# Altium footprint library PcbLib1.PcbLib: 11 footprints
Each footprint in its own frame and in the unit in brackets; x right, y up, seen from the top. Pads: shape width x height; smd on the part's side, far side on the other; paste and mask are expansions set on the pad; w line width, h text height; cw(c..) or ccw(c..) is an arc to the next point about the centre after c.
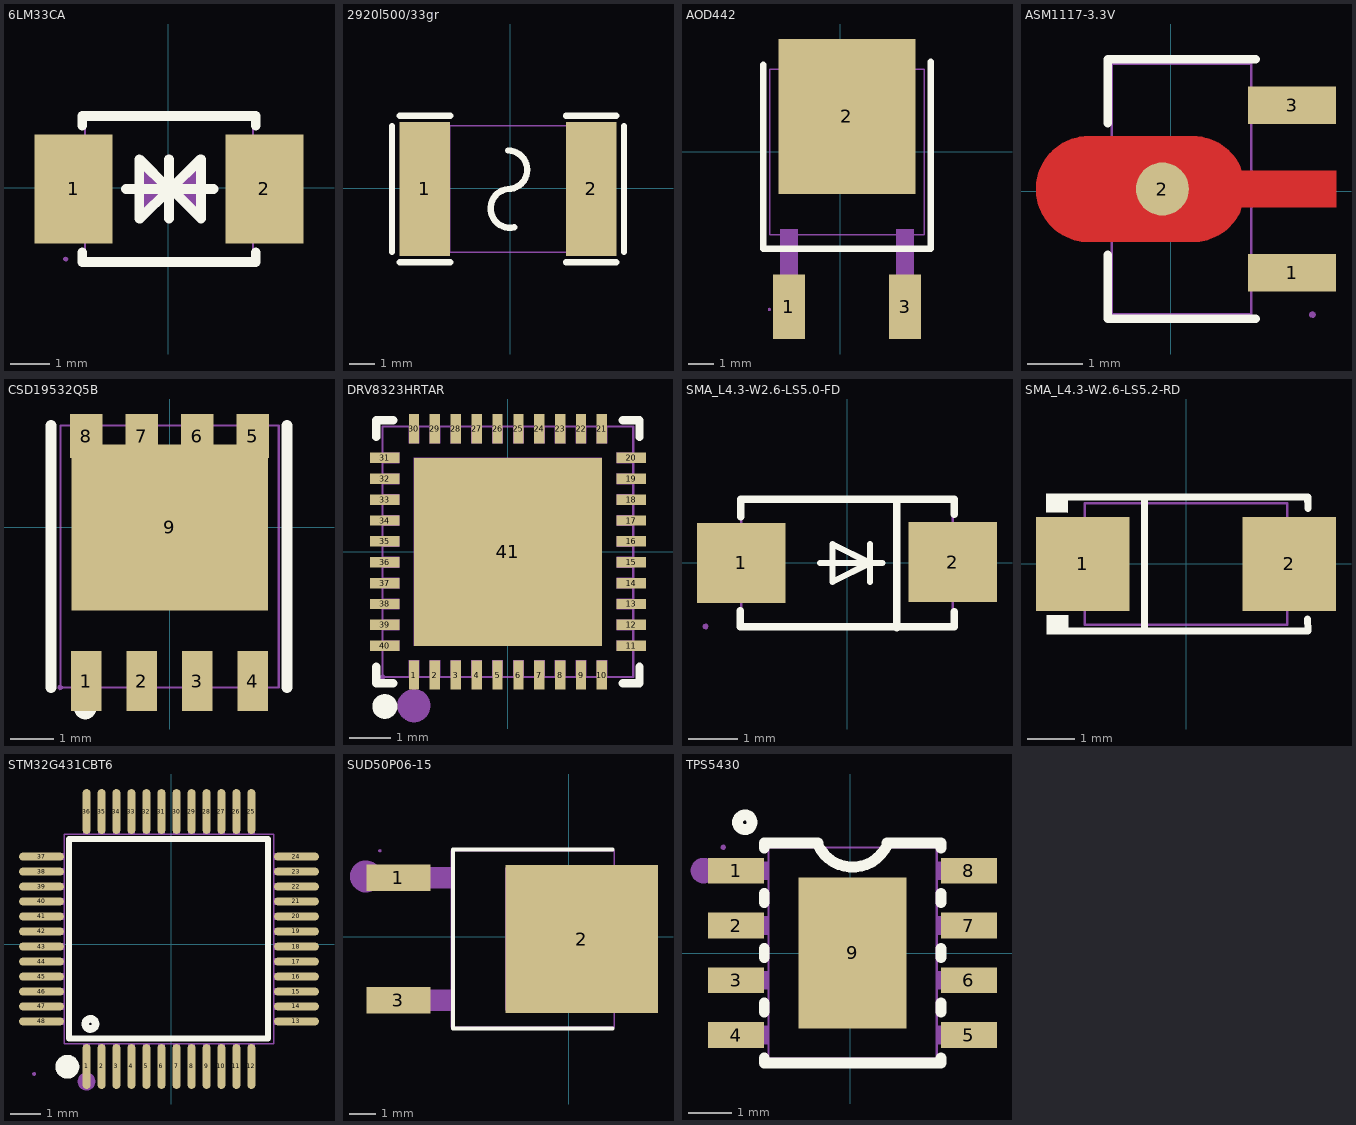
[diagram p0: the footprints below, top view; thin cyan lines are the x and y axes]

## 6LM33CA [mil] "双向TVS"
pads (2):
  rect 78.7x110.2 smd: 1(-95.6,-1.1) 2(97.3,-1.1)
Top Overlay:
  lines w10: -86.8,-65.4 -86.8,-75 88.5,-75 88.5,-65.4 ; -86.8,63.1 -86.8,72.7 88.5,72.7 88.5,63.1 ; -42.5,-1.1 45.8,-1.1 ; 0.8,-31.1 0.8,28.9 ; -29.2,-31.1 -29.2,28.9 0.8,-1.1 1.7,-1.1 -28.3,-31.1 -29.2,-31.1 ; 2.5,-1.1 3.3,-1.1 33.3,-31.1 33.3,28.9 32.5,28.9 2.5,-1.1
Mechanical 2:
  region: 28.4,26.4 28.4,-28.7 0.8,-1.1
  region: -26.7,26.4 -26.7,-28.7 0.8,-1.1
Mechanical 6:
  lines w2: -83.8,-72 -83.8,69.7 85.5,69.7 85.5,-72 -83.8,-72
Mechanical 8:
  region: -101.1,-72 -101.5,-73.3 -102.5,-74.2 -103.8,-74.3 -105,-73.8 -105.8,-72.7 -105.8,-71.3 -105,-70.2 -103.8,-69.7 -102.5,-69.9 -101.5,-70.7
Mechanical 9:
  region: 105.2,-42.5 61.9,-42.5 61.9,40.2 105.2,40.2
  region: -60.2,-42.5 -103.5,-42.5 -103.5,40.2 -60.2,40.2

## 2920l500/33gr [mil] "自恢复保险丝"
pads (2):
  rect 78.7x208.7 smd: 1(-133.8,-0.8) 2(126,-0.8)
Top Overlay:
  lines w10: -185,-99.3 -185,97.6 ; -173.2,-115 -94.4,-115 ; -173.2,113.3 -94.4,113.3 ; -3.9,59.2 0.8,58.8 5.4,57.7 9.7,55.9 13.7,53.4 17.3,50.4 20.4,46.8 22.8,42.8 24.6,38.4 25.7,33.9 26.1,29.2 25.7,24.5 24.6,19.9 22.8,15.6 20.4,11.5 17.3,8 13.7,4.9 9.7,2.4 5.4,0.6 0.8,-0.5 -3.9,-0.8 -8.5,-1.7 -13,-3.3 -17.1,-5.5 -20.9,-8.4 -24.1,-11.8 -26.8,-15.7 -28.9,-19.9 -30.3,-24.4 -30.9,-29.1 -30.9,-33.8 -30.1,-38.4 -28.6,-42.9 -26.5,-47.1 -23.7,-50.9 -20.4,-54.2 -16.6,-57 -12.4,-59.2 -7.9,-60.7 -3.3,-61.4 1.4,-61.5 6.1,-60.8 ; 86.7,-115 165.4,-115 ; 86.7,113.3 165.4,113.3 ; 177.2,-99.3 177.2,97.6
Mechanical 6:
  lines w2: -149.6,-99.3 141.8,-99.3 141.8,97.6 -149.6,97.6 -149.6,-99.3
Mechanical 8:
  region: -147.2,-99.3 -147.6,-100.5 -148.6,-101.4 -149.9,-101.6 -151.1,-101 -151.8,-99.9 -151.8,-98.6 -151.1,-97.5 -149.9,-96.9 -148.6,-97.1 -147.6,-98
Mechanical 9:
  region: -149.6,97.6 -94.4,97.6 -94.4,-99.3 -149.6,-99.3
  region: 141.8,-99.3 86.7,-99.3 86.7,97.6 141.8,97.6

## AOD442 [mil]
pads (3):
  rect 50x100 smd: 1(-79.9,-240) 3(100.2,-239.9)
  rect 212.6x240.2 smd: 2(10.1,55)
Top Overlay:
  lines w10: -119.9,129.9 -119.9,134.9 -120,-150.1 140,-150.1 140,134.9 140.1,139.9
Mechanical 2:
  lines w10: -84.9,-232.5 -84.5,-234.4 -83.4,-236 -81.8,-237.1 -79.9,-237.5 -78,-237.1 -76.3,-236 -75.3,-234.4 -74.9,-232.5 -75.3,-230.6 -76.3,-228.9 -78,-227.9 -79.9,-227.5 -81.8,-227.9 -83.4,-228.9 -84.5,-230.6 -84.9,-232.5
Mechanical 6:
  lines w2: -110,-128 -110,127.9 130.1,127.9 130.1,-128 -110,-128
Mechanical 7:
  region: 86.4,-224.9 86.4,-119.8 114,-119.8 114,-224.9
  region: -93.7,-224.9 -93.7,-119.8 -66.2,-119.8 -66.2,-224.9
Mechanical 8:
  region: -107.7,-244.2 -108,-245.4 -109,-246.3 -110.4,-246.5 -111.6,-246 -112.3,-244.8 -112.3,-243.5 -111.6,-242.4 -110.4,-241.8 -109,-242 -108,-242.9
Mechanical 9:
  region: 86.4,-244.2 86.4,-224.5 114,-224.5 114,-244.2
  region: -93.7,-244.2 -93.7,-224.5 -66.2,-224.5 -66.2,-244.2
  region: -78.5,-43.4 -78.5,153.5 98.6,153.5 98.6,-43.4

## ASM1117-3.3V [mil]
pads (3):
  rect 62x26.5 smd: 1(85.7,-57.5) 3(85.7,60.6)
  round 37.4 smd: 2(-5.8,1.6)
Top Layer:
  region: -57.6,39 15.4,39 17.1,38.9 18.9,38.8 20.6,38.6 22.4,38.3 24.1,37.9 25.8,37.5 27.4,37 29.1,36.4 30.7,35.7 32.3,34.9 33.8,34.1 35.3,33.2 36.8,32.2 38.2,31.2 39.6,30.1 40.9,28.9 42.1,27.7 43.3,26.4 44.5,25.1 45.5,23.7 46.5,22.3 47.5,20.8 48.3,19.2 49.1,17.7 49.9,14.6 116.7,14.6 116.7,-11.4 49.9,-11.4 49.1,-14.5 48.3,-16.1 47.5,-17.6 46.5,-19.1 45.5,-20.6 44.5,-21.9 43.3,-23.3 42.1,-24.6 40.9,-25.8 39.6,-27 38.2,-28.1 36.8,-29.1 35.3,-30.1 33.8,-31 32.3,-31.8 30.7,-32.5 29.1,-33.2 27.4,-33.8 25.8,-34.4 24.1,-34.8 22.4,-35.2 20.6,-35.5 18.9,-35.7 17.1,-35.8 15.4,-35.8 -57.6,-35.8 -59.4,-35.8 -61.1,-35.7 -62.9,-35.5 -64.6,-35.2 -66.3,-34.8 -68,-34.4 -69.7,-33.8 -71.3,-33.2 -72.9,-32.5 -74.5,-31.8 -76.1,-31 -77.6,-30.1 -79,-29.1 -80.4,-28.1 -81.8,-27 -83.1,-25.8 -84.4,-24.6 -85.6,-23.3 -86.7,-21.9 -87.8,-20.6 -88.8,-19.1 -89.7,-17.6 -90.6,-16.1 -91.4,-14.5 -92.1,-12.9 -92.7,-11.3 -93.3,-9.7 -93.8,-8 -94.2,-6.3 -94.5,-4.5 -94.8,-2.8 -94.9,-1.1 -95,0.7 -95,2.4 -94.9,4.2 -94.8,5.9 -94.5,7.7 -94.2,9.4 -93.8,11.1 -93.3,12.8 -92.7,14.5 -92.1,16.1 -91.4,17.7 -90.6,19.2 -89.7,20.8 -88.8,22.3 -87.8,23.7 -86.7,25.1 -85.6,26.4 -84.4,27.7 -83.1,28.9 -81.8,30.1 -80.4,31.2 -79,32.2 -77.6,33.2 -76.1,34.1 -74.5,34.9 -72.9,35.7 -71.3,36.4 -69.7,37 -68,37.5 -66.3,37.9 -64.6,38.3 -62.9,38.6 -61.1,38.8 -59.4,38.9
Top Overlay:
  lines w6: -44.5,-44.8 -44.5,-90 59.9,-90 ; -44.5,47.9 -44.5,93.2 59.9,93.2
Mechanical 2:
  lines w11.8: 93.9,-57.5 94.3,-59.5 95.3,-61.3 96.9,-62.6 98.8,-63.3 100.8,-63.3 102.8,-62.6 104.3,-61.3 105.4,-59.5 105.7,-57.5 105.4,-55.5 104.3,-53.7 102.8,-52.4 100.8,-51.7 98.8,-51.7 96.9,-52.4 95.3,-53.7 94.3,-55.5 93.9,-57.5
Mechanical 6:
  lines w2: -41.5,-87 -41.5,90.2 56.9,90.2 56.9,-87 -41.5,-87
Mechanical 8:
  region: 102.5,-87 102.1,-88.3 101.1,-89.1 99.8,-89.3 98.6,-88.8 97.9,-87.7 97.9,-86.3 98.6,-85.2 99.8,-84.7 101.1,-84.9 102.1,-85.7
Mechanical 9:
  region: 49.6,-8.7 100.2,-8.7 100.2,11.8 49.6,11.8 26.9,35.5 -46.5,35.5 -65,12.9 -65,-9.7 -46.5,-32.4 26.9,-32.4
  region: 56.8,-47.6 100.2,-47.6 100.2,-67.3 56.8,-67.3
  region: 56.8,70.5 100.2,70.5 100.2,50.8 56.8,50.8

## CSD19532Q5B [mil] "N-Mos"
pads (9):
  rect 27.6x54 smd paste-3937 mask+2: 1(-75,-138.5) 2(-25,-138.5) 3(25,-138.5) 4(75,-138.5)
  rect 29.5x39.4 smd paste-3937 mask+2: 5(75,82.4) 6(25,82.4) 7(-25,82.4) 8(-75,82.4)
  rect 177.2x149.6 smd paste-3937 mask+2: 9(0,0)
Top Overlay:
  lines w10: -107,-144.1 -107,91.9 ; 106,-144.1 106,91.9 ; -81,-163.1 -80.6,-161.2 -79.5,-159.6 -77.9,-158.5 -76,-158.1 -74.1,-158.5 -72.5,-159.6 -71.4,-161.2 -71,-163.1 -71.4,-165 -72.5,-166.6 -74.1,-167.7 -76,-168.1 -77.9,-167.7 -79.5,-166.6 -80.6,-165 -81,-163.1
Top Paste:
  region: 88.6,-74.9 88.6,62.5 89.8,62.5 89.8,101.9 60.2,101.9 60.2,74.7 39.8,74.7 39.8,102.3 10.2,102.3 10.2,74.7 -10.2,74.7 -10.2,102.3 -39.4,102.3 -40.2,102.3 -40.2,74.7 -60.2,74.7 -60.2,102.3 -89.8,102.3 -89.8,62.9 -88.6,62.9 -88.6,-74.5 -88.2,-74.9
  region: 61.2,-165.5 61.2,-111.5 88.8,-111.5 88.8,-165.5
  region: 11.2,-165.5 11.2,-111.5 38.8,-111.5 38.8,-165.5
  region: -38.8,-165.5 -38.8,-111.5 -11.2,-111.5 -11.2,-165.5
  region: -88.8,-165.5 -88.8,-111.5 -61.2,-111.5 -61.2,-165.5
Mechanical 2:
  lines w10: -80,-139.1 -79.6,-137.2 -78.5,-135.6 -76.9,-134.5 -75,-134.1 -73.1,-134.5 -71.5,-135.6 -70.4,-137.2 -70,-139.1 -70.4,-141 -71.5,-142.6 -73.1,-143.7 -75,-144.1 -76.9,-143.7 -78.5,-142.6 -79.6,-141 -80,-139.1
Mechanical 6:
  lines w2: -98.4,-144.2 98.4,-144.2 98.4,92 -98.4,92 -98.4,-144.2
Mechanical 8:
  region: -96.1,-144.2 -96.4,-145.5 -97.4,-146.3 -98.8,-146.5 -100,-146 -100.7,-144.9 -100.7,-143.5 -100,-142.4 -98.8,-141.9 -97.4,-142.1 -96.4,-142.9
Mechanical 9:
  region: -83.1,68 -83.1,92 -66.9,92 -66.9,68
  region: -33.1,68 -33.1,92 -16.9,92 -16.9,68
  region: 16.9,68 16.9,92 33.1,92 33.1,68
  region: 66.9,68 66.9,92 83.1,92 83.1,68
  region: 83.1,-120.2 83.1,-144.2 66.9,-144.2 66.9,-120.2
  region: 33.1,-120.2 33.1,-144.2 16.9,-144.2 16.9,-120.2
  region: -16.9,-120.2 -16.9,-144.2 -33.1,-144.2 -33.1,-120.2
  region: -66.9,-120.2 -66.9,-144.2 -83.1,-144.2 -83.1,-120.2
  region: -80,-70.1 -80,70.9 77.5,70.9 77.5,-70.1

## DRV8323HRTAR [mil]
pads (41):
  rect 9.8x27.6 smd paste-3937 mask+2: 1(-88.6,-116.2) 2(-68.9,-116.2) 3(-49.2,-116.2) 4(-29.5,-116.2) 5(-9.8,-116.2) 6(9.9,-116.2) 7(29.6,-116.2) 8(49.2,-116.2) 9(68.9,-116.2) 10(88.6,-116.2) 21(88.6,116.1) 22(68.9,116.1) 23(49.2,116.1) 24(29.6,116.1) 25(9.9,116.1) 26(-9.8,116.1) 27(-29.5,116.1) 28(-49.2,116.1) 29(-68.9,116.1) 30(-88.6,116.1)
  rect 27.6x9.8 smd paste-3937 mask+2: 11(116.2,-88.6) 12(116.2,-68.9) 13(116.2,-49.2) 14(116.2,-29.6) 15(116.2,-9.9) 16(116.2,9.8) 17(116.2,29.5) 18(116.2,49.2) 19(116.2,68.9) 20(116.2,88.5) 31(-116.1,88.5) 32(-116.1,68.9) 33(-116.1,49.2) 34(-116.1,29.5) 35(-116.1,9.8) 36(-116.1,-9.9) 37(-116.1,-29.6) 38(-116.1,-49.2) 39(-116.1,-68.9) 40(-116.1,-88.6)
  rect 177.2x177.2 smd paste-3937 mask+2: 41(0,0)
Top Overlay:
  lines w7.9: -124,-108.3 -124,-124 -108.2,-124 ; -124,108.2 -124,124 -108.2,124 ; 108.3,-124 124,-124 124,-108.3 ; 108.3,124 124,124 124,108.2
  lines w11.8: -116.1,-139.8 -118.1,-140.2 -119.9,-141.2 -121.2,-142.8 -121.9,-144.7 -121.8,-146.8 -121.1,-148.7 -119.8,-150.3 -118,-151.3 -116,-151.6 -114,-151.3 -112.2,-150.3 -110.9,-148.7 -110.2,-146.8 -110.2,-144.7 -110.9,-142.8 -112.2,-141.2 -114,-140.2 -116,-139.8
Top Paste:
  drawing of 41 lines, arcs and shapes, not listed
Mechanical 2:
  lines w15.7: -96.4,-145 -96.1,-142.6 -94.9,-140.4 -93.2,-138.7 -91,-137.5 -88.6,-137.2 -86.1,-137.5 -83.9,-138.7 -82.2,-140.4 -81.1,-142.6 -80.7,-145 -81.1,-147.5 -82.2,-149.7 -83.9,-151.4 -86.1,-152.5 -88.6,-152.9 -91,-152.5 -93.2,-151.4 -94.9,-149.7 -96.1,-147.5 -96.4,-145
Mechanical 6:
  lines w2: -118.1,-118.1 118.1,-118.1 118.1,118.1 -118.1,118.1 -118.1,-118.1
Mechanical 8:
  region: -115.7,-118.1 -116.1,-119.4 -117.1,-120.3 -118.4,-120.5 -119.6,-119.9 -120.4,-118.8 -120.4,-117.5 -119.6,-116.4 -118.4,-115.8 -117.1,-116 -116.1,-116.9
Mechanical 9:
  drawing of 41 lines, arcs and shapes, not listed

## SMA_L4.3-W2.6-LS5.0-FD [mil]
pads (2):
  rect 70.9x63.8 smd: 1(-84.7,-0.3) 2(84.6,0.4)
Top Overlay:
  lines w5: -21.7,-0.4 28.3,-0.4 ; 18.3,-15.4 18.3,-0.4 ; 18.3,14.6 18.3,-0.4 ; 18.3,-0.4 -11.7,-15.4 -11.7,-0.4 -11.7,14.6 18.3,-0.4
  lines w6: -85.5,-38.5 -85.5,-51.5 85.7,-51.5 85.7,-39.2 ; -85.1,36.7 -85.1,50.8 86,50.8 86,38.5 ; 39.6,-52 39.6,50.3
Mechanical 2:
  region: -84.4,25.4 -84.4,-25.3 -76.8,-25.3 -76.8,25.4
  region: -95.8,3.8 -95.8,-3.8 -65.4,-3.8 -65.4,3.8
  region: 95.7,3.8 95.7,-3.8 65.3,-3.8 65.3,3.8
Mechanical 6:
  lines w2: -84.7,-51.1 -84.7,51.2 84.6,51.2 84.6,-51.1 -84.7,-51.1
Mechanical 8:
  region: -111,-51.1 -111.4,-52.4 -112.4,-53.3 -113.7,-53.5 -114.9,-52.9 -115.6,-51.8 -115.6,-50.5 -114.9,-49.4 -113.7,-48.8 -112.4,-49 -111.4,-49.9
Mechanical 9:
  region: 98.4,29 98.4,-28.1 53.1,-28.1 53.1,29
  region: -98.4,-28.9 -98.4,28.2 -53.2,28.2 -53.2,-28.9

## SMA_L4.3-W2.6-LS5.2-RD [mil]
pads (2):
  rect 78.7x78.7 smd: 1(-86.6,0) 2(86.6,0)
Top Overlay:
  region: -98.9,-43.2 -99,-59.2 -117.1,-59 -116.9,-43.2
  region: -99.2,59.1 -99.3,43.1 -117.4,43.3 -117.2,59.1
  lines w6: -102.2,-56.2 102.2,-56.2 ; -102.2,56.1 102.2,56.1 102.5,46.7 ; -34.8,-56.2 -34.8,56.1 ; 102.1,-46.3 102.3,-55.7
Mechanical 2:
  region: 79.3,-26.6 79.3,26.5 71.3,26.5 71.3,-26.6
  region: 90.1,-3.6 90.1,4.4 58.2,4.4 58.2,-3.6
  region: -91.3,-4 -91.3,3.9 -59.4,3.9 -59.4,-4
Mechanical 6:
  lines w2: -85.1,-51.2 85,-51.2 85,51.1 -85.1,51.1 -85.1,-51.2
Mechanical 8:
  region: -100.2,-51.2 -100.6,-52.5 -101.6,-53.4 -102.9,-53.6 -104.1,-53 -104.8,-51.9 -104.8,-50.6 -104.1,-49.4 -102.9,-48.9 -101.6,-49.1 -100.6,-49.9
Mechanical 9:
  region: -58.3,28.5 -58.3,-28.6 -102.6,-28.6 -102.6,28.5
  region: 102.5,28.5 102.5,-28.6 58.3,-28.6 58.3,28.5

## STM32G431CBT6 [mil]
pads (48):
  oval 10.6x59.1 smd paste+0 mask+2: 1(-111.4,-160.5) 2(-91.7,-160.5) 3(-72.1,-160.5) 4(-52.4,-160.5) 5(-32.7,-160.5) 6(-13,-160.5) 7(6.7,-160.5) 8(26.4,-160.5) 9(46.1,-160.5) 10(65.7,-160.5) 11(85.4,-160.5) 12(105.1,-160.5) 25(105.1,174.2) 26(85.4,174.2) 27(65.7,174.2) 28(46.1,174.2) 29(26.4,174.2) 30(6.7,174.2) 31(-13,174.2) 32(-32.7,174.2) 33(-52.4,174.2) 34(-72.1,174.2) 35(-91.7,174.2) 36(-111.4,174.2)
  oval 59.1x10.6 smd paste+0 mask+2: 13(164.2,-101.4) 14(164.2,-81.7) 15(164.2,-62.1) 16(164.2,-42.4) 17(164.2,-22.7) 18(164.2,-3) 19(164.2,16.7) 20(164.2,36.4) 21(164.2,56.1) 22(164.2,75.7) 23(164.2,95.4) 24(164.2,115.1) 37(-170.5,115.1) 38(-170.5,95.4) 39(-170.5,75.7) 40(-170.5,56.1) 41(-170.5,36.4) 42(-170.5,16.7) 43(-170.5,-3) 44(-170.5,-22.7) 45(-170.5,-42.4) 46(-170.5,-62.1) 47(-170.5,-81.7) 48(-170.5,-101.4)
Top Overlay:
  lines w7.9: -117.2,138.3 126.8,138.3 126.8,-123.7 -134.2,-123.7 -134.2,138.3 -104.2,138.3
  lines w10: -112.9,-105.7 -112.9,-103.5 -112.2,-101.4 -110.8,-99.6 -109,-98.4 -106.9,-97.9 -104.7,-98.1 -102.6,-99 -101,-100.5 -100,-102.4 -99.6,-104.6 -100,-106.8 -101,-108.7 -102.6,-110.2 -104.7,-111.1 -106.9,-111.3 -109,-110.7 -110.8,-109.5 -112.2,-107.8 -112.9,-105.7
  lines w15.7: -136.6,-153 -139,-153.4 -141.2,-154.5 -143,-156.3 -144.1,-158.5 -144.4,-160.9 -144,-163.3 -142.9,-165.5 -141.2,-167.2 -139,-168.4 -136.6,-168.7 -134.1,-168.4 -131.9,-167.2 -130.2,-165.5 -129.1,-163.3 -128.7,-160.9 -129.1,-158.5 -130.2,-156.3 -131.9,-154.5 -134.1,-153.4 -136.5,-153
Mechanical 2:
  lines w11.8: -117.3,-180.2 -117,-178.1 -115.9,-176.4 -114.4,-175 -112.4,-174.3 -110.4,-174.3 -108.5,-175 -106.9,-176.4 -105.9,-178.1 -105.5,-180.2 -105.9,-182.2 -106.9,-184 -108.5,-185.3 -110.4,-186 -112.4,-186 -114.4,-185.3 -115.9,-184 -117,-182.2 -117.3,-180.2
Mechanical 6:
  lines w2: -140.9,-130.9 -140.9,144.6 134.6,144.6 134.6,-130.9 -140.9,-130.9
Mechanical 7:
  drawing of 48 lines, arcs and shapes, not listed
Mechanical 8:
  region: -178,-170.3 -178.3,-171.6 -179.3,-172.5 -180.7,-172.7 -181.9,-172.1 -182.6,-171 -182.6,-169.7 -181.9,-168.5 -180.7,-168 -179.3,-168.2 -178.3,-169
Mechanical 9:
  drawing of 48 lines, arcs and shapes, not listed

## SUD50P06-15 [mil] "P-MOS"
pads (3):
  rect 94.8x38.5 smd: 1(-250.3,86.9) 3(-250.3,-93.4)
  rect 224.8x218.4 smd: 2(19.3,-3.3)
Top Overlay:
  lines w6: 65,-135 -170,-135 -170,128.5 65,128.5
Mechanical 2:
  lines w23.6: -309.9,87.4 -309.2,84.5 -307.7,81.9 -305.7,79.8 -303.2,78.2 -300.4,77.3 -297.4,77.1 -294.5,77.6 -291.9,78.9 -289.6,80.8 -287.8,83.2 -286.8,85.9 -286.4,88.9 -286.8,91.8 -287.8,94.6 -289.6,97 -291.9,98.8 -294.5,100.1 -297.4,100.7 -300.4,100.5 -303.2,99.6 -305.7,98 -307.7,95.8 -309.2,93.2 -309.9,90.4 -309.9,87.4
Mechanical 6:
  lines w2: -172.6,-133.2 67.6,-133.2 67.6,126.7 -172.6,126.7 -172.6,-133.2
Mechanical 7:
  region: -172,-77.7 -172,-109.2 -230.7,-109.2 -230.7,-77.7
  region: -172,102.7 -172,71.2 -230.7,71.2 -230.7,102.7
Mechanical 8:
  region: -275.5,126.7 -275.9,125.4 -276.9,124.5 -278.2,124.3 -279.4,124.9 -280.2,126 -280.2,127.3 -279.4,128.4 -278.2,129 -276.9,128.8 -275.9,127.9
Mechanical 9:
  region: -93.2,-108.3 -93.2,101.8 91,101.8 112,80.8 112,-87.3 91,-108.3
  region: -230.6,-109.2 -277.9,-109.2 -277.9,-77.7 -230.6,-77.7
  region: -230.6,71.2 -277.9,71.2 -277.9,102.6 -230.6,102.6

## TPS5430 [mil]
pads (9):
  rect 51.2x23.6 smd: 1(-104.2,75.4) 2(-104.2,25.4) 3(-104.2,-24.6) 4(-104.2,-74.6) 5(108.4,-74.6) 6(108.4,-24.6) 7(108.4,25.4) 8(108.4,75.4)
  rect 98.4x137.8 smd: 9(2.1,0.4)
Top Overlay:
  lines w10: -78.6,-95.5 -78.6,-100 82.8,-100 82.8,-95.5 ; -78.6,-53.7 -78.6,-45.5 ; -78.6,-3.7 -78.6,4.5 ; -78.6,46.3 -78.6,54.5 ; -78.6,96.3 -78.6,100.8 -29.4,100.8 ; -29.4,98.8 -26.8,94.2 -23.6,90.1 -19.7,86.5 -15.4,83.5 -10.7,81.2 -5.7,79.7 -0.5,78.9 4.7,78.9 9.9,79.7 14.9,81.2 19.7,83.5 24,86.5 27.8,90.1 31,94.2 33.6,98.8 ; 33.6,100.8 82.8,100.8 82.8,96.3 ; 82.8,-53.7 82.8,-45.5 ; 82.8,-3.7 82.8,4.5 ; 82.8,46.3 82.8,54.5 ; -102.9,118.6 -102.2,116.5 -100.8,114.7 -99,113.5 -96.9,113 -94.7,113.2 -92.6,114.1 -91,115.6 -90,117.5 -89.6,119.7 -90,121.9 -91,123.8 -92.6,125.3 -94.7,126.2 -96.9,126.4 -99,125.8 -100.8,124.6 -102.2,122.9 -102.9,120.8 -102.9,118.6
Mechanical 2:
  lines w11.8: -140,75.6 -139.6,73.6 -138.6,71.8 -137,70.5 -135.1,69.8 -133.1,69.8 -131.1,70.5 -129.6,71.8 -128.5,73.6 -128.2,75.6 -128.5,77.6 -129.6,79.4 -131.1,80.7 -133.1,81.4 -135.1,81.4 -137,80.7 -138.6,79.4 -139.6,77.6 -140,75.6
Mechanical 6:
  lines w2: -74.6,-96.1 78.9,-96.1 78.9,96.8 -74.6,96.8 -74.6,-96.1
Mechanical 7:
  region: 78.5,83.7 87.8,83.7 87.8,67.1 78.5,67.1
  region: 78.5,33.7 87.8,33.7 87.8,17.1 78.5,17.1
  region: 78.5,-16.3 87.8,-16.3 87.8,-32.9 78.5,-32.9
  region: 78.5,-66.3 87.8,-66.3 87.8,-82.9 78.5,-82.9
  region: -83.5,-66.3 -74.3,-66.3 -74.3,-82.9 -83.5,-82.9
  region: -83.5,-16.3 -74.3,-16.3 -74.3,-32.9 -83.5,-32.9
  region: -83.5,33.7 -74.3,33.7 -74.3,17.1 -83.5,17.1
  region: -83.5,83.7 -74.3,83.7 -74.3,67.1 -83.5,67.1
Mechanical 8:
  region: -113.6,96.8 -114,95.6 -115,94.7 -116.3,94.5 -117.5,95.1 -118.2,96.2 -118.2,97.5 -117.5,98.6 -116.3,99.2 -115,99 -114,98.1
Mechanical 9:
  region: 87.4,83.7 120.2,83.7 120.2,67.1 87.4,67.1
  region: 87.4,33.7 120.2,33.7 120.2,17.1 87.4,17.1
  region: 87.4,-16.3 120.2,-16.3 120.2,-32.9 87.4,-32.9
  region: 87.4,-66.3 120.2,-66.3 120.2,-82.9 87.4,-82.9
  region: -116,-66.3 -83.1,-66.3 -83.1,-82.9 -116,-82.9
  region: -116,-16.3 -83.1,-16.3 -83.1,-32.9 -116,-32.9
  region: -116,33.7 -83.1,33.7 -83.1,17.1 -116,17.1
  region: -116,83.7 -83.1,83.7 -83.1,67.1 -116,67.1
  region: -45.4,-64.6 -45.4,65.4 49.6,65.4 49.6,-64.6